# Altium footprint library Diodes.PcbLib: 49 footprints (part 1 of 4)
Each footprint in its own frame and in the unit in brackets; x right, y up, seen from the top. Pads: shape width x height; smd on the part's side, far side on the other; paste and mask are expansions set on the pad; w line width, h text height; cw(c..) or ccw(c..) is an arc to the next point about the centre after c.
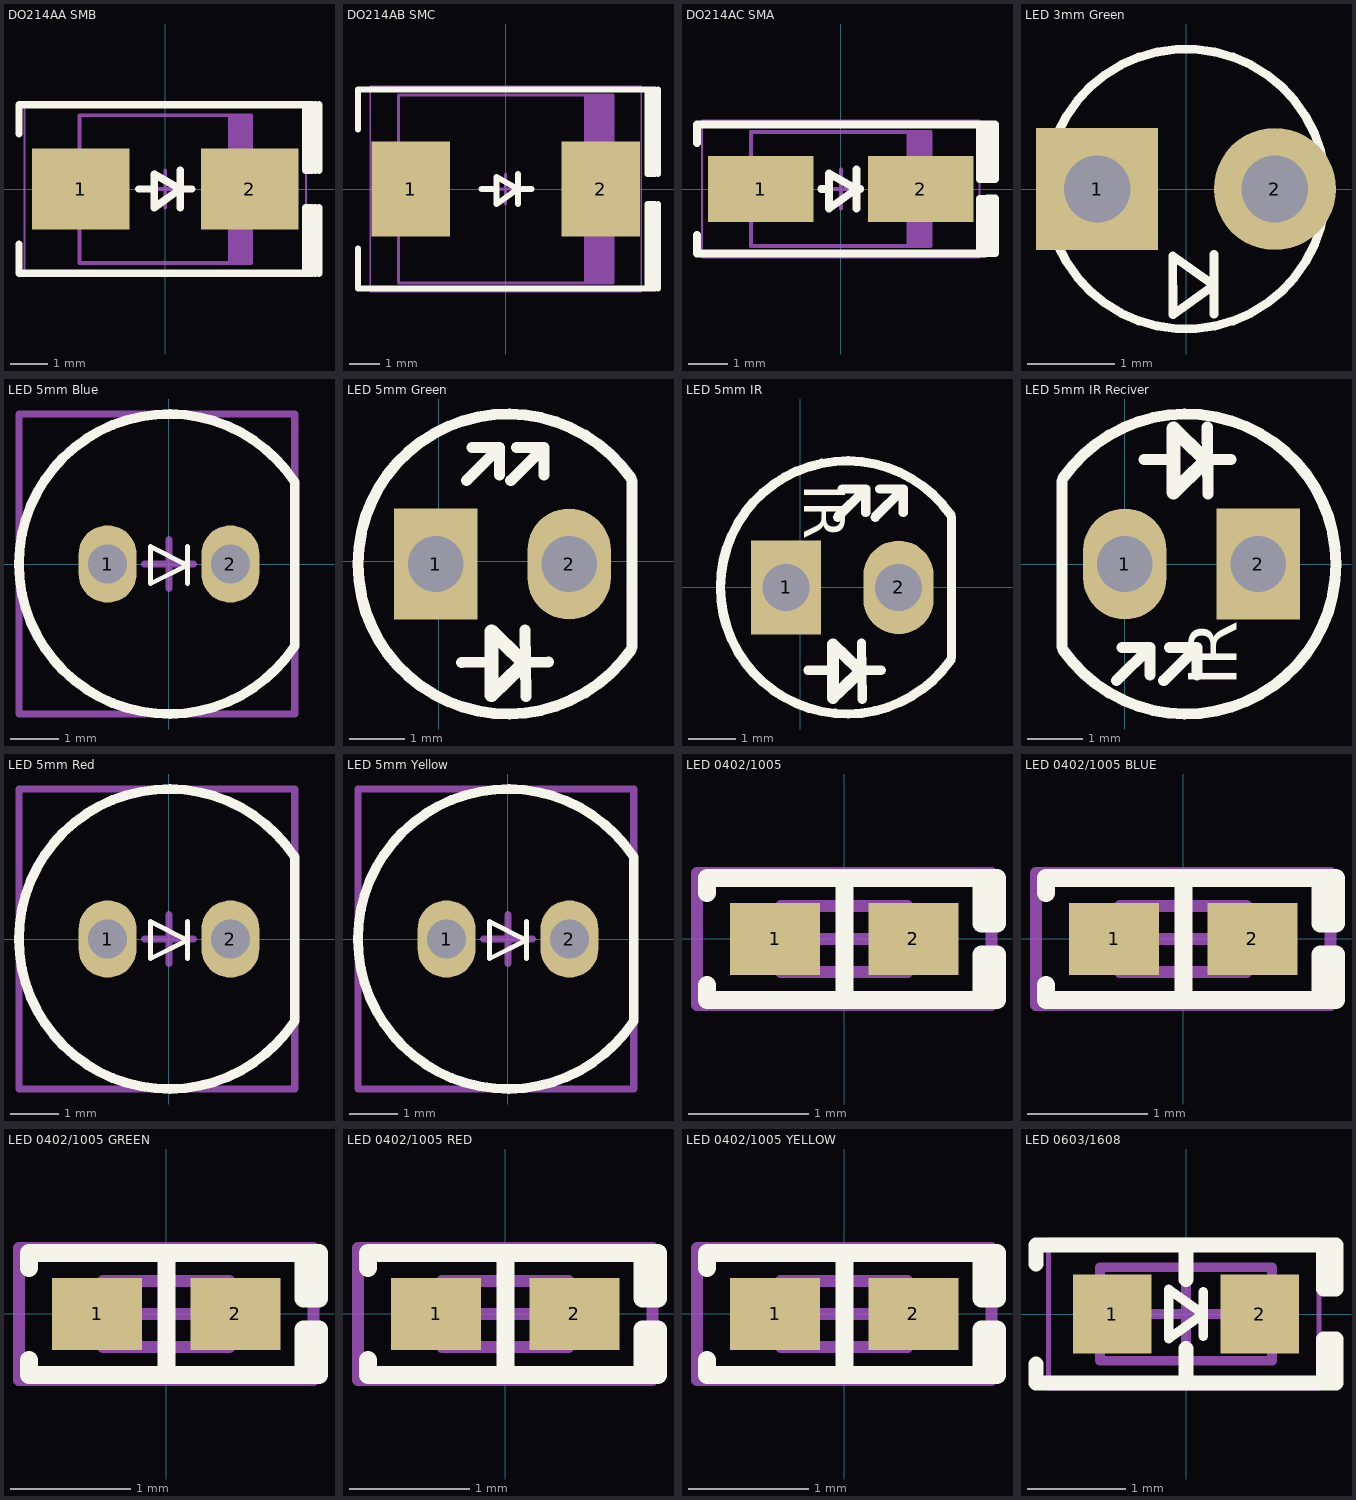
[diagram p0: the footprints below, top view; thin cyan lines are the x and y axes]

## DO214AA SMB [mm] "Molded Diode, 2-Leads, Body 4.31x3.62mm, IPC Medium Density"
height 2.44
pads (2):
  rect 2.6x2.15 smd: 1(-2.25,0) 2(2.25,0)
Top Overlay:
  lines w0.2: -3.9,-1.475 -3.9,-2.25 3.9,-2.25 3.9,-0.5 3.75,-0.5 3.75,-2.25 ; -3.9,1.475 -3.9,2.25 3.9,2.25 3.9,0.5 3.75,0.5 3.75,2.25 ; -0.7,0 -0.3,0 ; 0.4,-0.5 0.4,0.5 ; 0.7,0 0.4,0 ; 4,-2.25 4,-0.5 ; 4,0.5 4,2.25 ; 4.1,-2.25 4.1,-0.5 ; 4.1,0.5 4.1,2.25 ; 0.4,0 -0.3,0.4 -0.3,-0.5 0.4,0
Mechanical 13:
  rectangle: 1.67,-1.97 2.285,1.97
  lines w0.1: -2.285,-1.97 2.285,-1.97 2.285,1.97 -2.285,1.97 -2.285,-1.97
Mechanical 15:
  lines w0.05: -3.75,-2.25 3.75,-2.25 3.75,2.25 -3.75,2.25 -3.75,-2.25
  lines w0.1: -0.5,0 0.5,0 ; 0,-0.5 0,0.5
3D body "SMB.STEP": height 2.4, standoff 0, extent -2.6,-1.799 2.6,1.8

## DO214AB SMC [mm] "Molded Diode, 2-Leads, Body 6.85x5.90mm, IPC Medium Density"
height 2.62
pads (2):
  rect 2.6x3.15 smd: 1(-3.15,0) 2(3.15,0)
Top Overlay:
  lines w0.2: -4.9,-1.975 -4.9,-3.3 4.9,-3.3 ; -4.9,1.975 -4.9,3.3 4.9,3.3 ; -0.8,0 -0.3,0 ; 0.4,-0.5 0.4,0.5 ; 0.85,0 0.4,0 ; 4.7,-3.3 4.7,-0.5 4.9,-0.5 ; 4.7,3.3 4.7,0.5 4.9,0.5 ; 4.85,-3.3 4.85,-0.5 ; 4.85,0.5 4.85,3.3 ; 4.95,-3.3 4.95,-0.5 ; 4.95,0.5 4.95,3.3 ; 5.05,-3.3 5.05,-0.5 ; 5.05,0.5 5.05,3.3 ; 0.4,0 -0.3,0.4 -0.3,-0.5 0.4,0
Mechanical 13:
  rectangle: 2.599,-3.11 3.555,3.11
  lines w0.1: -3.555,-3.11 -3.555,3.11 3.555,3.11 3.555,-3.11 -3.555,-3.11
Mechanical 15:
  lines w0.05: -4.5,-3.4 -4.5,3.4 4.5,3.4 4.5,-3.4 -4.5,-3.4
  lines w0.1: -0.5,0 0.5,0 ; 0,-0.5 0,0.5
3D body "SMC.STEP": height 2.6, standoff 0, extent -3.97,-2.952 3.97,2.952

## DO214AC SMA [mm] "Molded Diode, 2-Leads, Body 4.30x2.60mm, IPC Medium Density"
height 2.4
pads (2):
  rect 2.7x1.7 smd: 1(-2.05,0) 2(2.05,0)
Top Overlay:
  rectangle: 3.5,0.2 4,1.7
  rectangle: 3.5,-1.7 4,-0.2
  lines w0.2: -3.683,-1.175 -3.683,-1.651 3.7,-1.651 3.7,-0.254 ; -3.683,1.175 -3.683,1.651 3.75,1.651 ; -0.5,0 -0.3,0 ; 0.4,-0.5 0.4,0.5 ; 0.5,0 0.4,0 ; 3.556,-1.651 3.556,-0.254 3.75,-0.254 ; 3.556,1.651 3.556,0.254 3.75,0.254 ; 3.7,0.254 3.7,1.651 ; 3.756,-1.646 3.95,-1.646 3.95,-0.249 ; 3.756,-0.246 3.95,-0.246 ; 3.756,0.254 3.95,0.254 3.95,1.651 ; 3.756,1.654 3.95,1.654 ; 3.806,-1.646 3.806,-0.249 ; 3.806,0.254 3.806,1.651 ; 0.4,0 -0.3,0.4 -0.3,-0.5 0.4,0
Mechanical 13:
  rectangle: 1.681,-1.46 2.3,1.46
  lines w0.1: -2.3,-1.46 -2.3,1.46 2.3,1.46 2.3,-1.46 -2.3,-1.46
Mechanical 15:
  lines w0.05: -3.556,-1.75 -3.556,1.75 3.556,1.75 3.556,-1.75 -3.556,-1.75
  lines w0.1: -0.5,0 0.5,0 ; 0,-0.5 0,0.5
3D body "SMA.STEP": height 2.4, standoff 0, extent -2.6,-1.375 2.6,1.375

## LED 3mm Green [mil]
height 157.48
pads (2):
  rect 55x55 hole 30: 1(-40,0)
  round 55 hole 30: 2(40,0)
Top Overlay:
  circle w3.94: c0,0 r62.99
  lines w3.94: -5.91,-56.3 -5.91,-30.09 12.6,-43.31 -5.8,-56.45 ; 12.6,-56.3 12.6,-29.53
3D body "LED.STEP": height 153.55, standoff -59.05, extent -68.9,-69 68.9,68.8

## LED 5mm Blue [mm] "LED 5MM THROUGH HOLE BLUE-Designer Abbas Basereh"
height 7.62
pads (2):
  oval 1.2x1.6 hole 0.8: 1(-1.27,0) 2(1.27,0)
Top Overlay:
  lines w0.1: 0.381,-0.403 0.381,0.359 ; -0.381,-0.403 -0.381,0.359 0.381,-0.022 -0.381,-0.403
  lines w0.2: 2.6,-1.7 2.6,1.7 ; 2.6,-1.688 cw(c0,0) 2.6,1.688
Mechanical 15:
  lines w0.15: -0.5,0 0.5,0 ; 0,-0.5 0,0.5 ; -3.1,-3.1 -3.1,3.1 2.6,3.1 2.6,-3.1 -3.1,-3.1
3D body "User Library-LEDd5B.STEP": height 12.31, standoff -2.49, extent -2.99,-2.98 2.43,3.04

## LED 5mm Green [mm]
pads (2):
  rect 1.5x2 hole 1: 1(-0.05,-0.05)
  oval 1.5x2 hole 1: 2(2.35,-0.05)
Top Overlay:
  lines w0.2: 0.418,-1.82 0.88,-1.814 ; 0.5,1.45 1.1,2.05 ; 0.6,2.05 1.1,2.05 ; 1.1,1.55 1.1,2.05 ; 1.3,1.45 1.9,2.05 ; 1.4,2.05 1.9,2.05 ; 1.518,-1.82 1.98,-1.814 ; 1.558,-1.236 1.572,-2.436 ; 1.9,1.55 1.9,2.05 ; 3.462,-1.599 cw(c1.25,-0.05) 3.462,1.499 ; 3.48,-1.541 3.48,1.441
  lines w0.254: 1.475,-1.898 0.95,-2.406 0.95,-1.263 1.475,-1.771
3D body "User Library-led5mm-red.STEP": height 9.6, standoff -1.8, extent -1.75,-2.998 3.701,2.898

## LED 5mm IR [mm]
pads (2):
  rect 1.5x2 hole 1: 1(-0.3,0)
  oval 1.5x2 hole 1: 2(2.1,0)
Top Overlay:
  lines w0.2: 0.168,-1.77 0.63,-1.764 ; 0.8,1.5 1.4,2.1 ; 0.9,2.1 1.4,2.1 ; 1.268,-1.77 1.73,-1.764 ; 1.308,-1.186 1.322,-2.386 ; 1.4,1.6 1.4,2.1 ; 1.6,1.5 2.2,2.1 ; 1.7,2.1 2.2,2.1 ; 2.2,1.6 2.2,2.1 ; 3.212,-1.549 cw(c1,0) 3.212,1.549 ; 3.23,-1.491 3.23,1.491
  lines w0.254: 1.225,-1.848 0.7,-2.356 0.7,-1.213 1.225,-1.721
  text "IR" at -0.2,2.2 h1.5
3D body "User Library-led5mm-red.STEP": height 9.6, standoff -1.8, extent -2,-2.948 3.451,2.948

## LED 5mm IR Reciver [mm]
pads (2):
  oval 1.5x2 hole 1: 1(0,0)
  rect 1.5x2 hole 1: 2(2.4,0)
Top Overlay:
  lines w0.2: -1.13,-1.491 -1.13,1.491 ; -1.112,-1.549 ccw(c1.1,0) -1.112,1.549 ; -0.15,-2.1 0.45,-1.5 ; -0.05,-1.5 0.45,-1.5 ; 0.343,1.878 0.805,1.883 ; 0.45,-2 0.45,-1.5 ; 0.7,-2.1 1.3,-1.5 ; 0.8,-1.5 1.3,-1.5 ; 1.3,-2 1.3,-1.5 ; 1.443,1.878 1.905,1.883 ; 1.483,2.462 1.497,1.262
  lines w0.254: 1.4,1.8 0.875,1.292 0.875,2.435 1.4,1.927
  text "IR" at 2.3,-2.2 h1.5
3D body "User Library-led5mm-red.STEP": height 9.6, standoff -1.8, extent -1.351,-2.948 4.1,2.948

## LED 5mm Red [mm] "LED 5MM THROUGH HOLE RED-Designer Abbas Basereh"
height 7.62
pads (2):
  oval 1.2x1.6 hole 0.8: 1(-1.27,0) 2(1.27,0)
Top Overlay:
  lines w0.1: 0.381,-0.403 0.381,0.359 ; -0.381,-0.403 0.381,-0.022 -0.381,0.359 -0.381,-0.403
  lines w0.2: 2.6,-1.7 2.6,1.7 ; 2.6,-1.688 cw(c0,0) 2.6,1.688
Mechanical 15:
  lines w0.15: -0.5,0 0.5,0 ; 0,-0.5 0,0.5 ; -3.1,-3.1 2.6,-3.1 2.6,3.1 -3.1,3.1 -3.1,-3.1
3D body "SW3dPS-LEDd5R.STEP": height 12.31, standoff -2.49, extent -2.97,-3 2.45,3.02

## LED 5mm Yellow [mm] "LED 5MM THROUGH HOLE YELLOW-Designer Abbas Basereh"
height 7.62
pads (2):
  oval 1.2x1.6 hole 0.8: 1(-1.27,0) 2(1.27,0)
Top Overlay:
  lines w0.1: 0.381,-0.403 0.381,0.359 ; -0.381,-0.403 -0.381,0.359 0.381,-0.022 -0.381,-0.403
  lines w0.2: 2.6,-1.7 2.6,1.7 ; 2.6,-1.688 cw(c0,0) 2.6,1.688
Mechanical 15:
  lines w0.15: -0.5,0 0.5,0 ; 0,-0.5 0,0.5 ; -3.1,-3.1 2.6,-3.1 2.6,3.1 -3.1,3.1 -3.1,-3.1
3D body "SW3dPS-LEDd5Y.STEP": height 12.31, standoff -2.49, extent -3,-3.01 2.42,3.01

## LED 0402/1005 [mm] "Chip Diode, 2-Leads, Body 1.00x0.50mm, IPC Medium Density"
height 0.25
pads (2):
  rect 0.75x0.6 smd: 1(-0.575,0) 2(0.575,0)
Top Overlay:
  lines w0.15: -1.143,-0.381 -1.143,-0.508 1.143,-0.508 ; -1.143,0.381 -1.143,0.508 1.143,0.508 ; 0,-0.508 0,0.508 ; 1.143,-0.508 1.27,-0.508 1.27,-0.127 1.143,-0.127 1.143,-0.508 ; 1.143,0.508 1.27,0.508 1.27,0.127 1.143,0.127 1.143,0.508
Mechanical 13:
  lines w0.1: -0.525,-0.275 -0.525,0.275 0.525,0.275 0.525,-0.275 -0.525,-0.275
Mechanical 15:
  lines w0.1: -0.275,0 0.275,0 ; 0,-0.275 0,0.275 ; -1.225,-0.55 -1.225,0.55 1.225,0.55 1.225,-0.55 -1.225,-0.55
3D body "LED 0402 Lens WHITE.STEP": height 0.21, standoff 0.08, extent -0.35,-0.25 0.35,0.25
3D body "LED 0402 Base WHITE.STEP": height 0.1, standoff 0, extent -0.5,-0.25 0.5,0.25

## LED 0402/1005 BLUE [mm] "Chip Diode, 2-Leads, Body 1.00x0.50mm, IPC Medium Density"
height 0.25
pads (2):
  rect 0.75x0.6 smd: 1(-0.575,0) 2(0.575,0)
Top Overlay:
  lines w0.15: -1.143,-0.381 -1.143,-0.508 1.143,-0.508 ; -1.143,0.381 -1.143,0.508 1.143,0.508 ; 0,-0.508 0,0.508 ; 1.143,-0.508 1.27,-0.508 1.27,-0.127 1.143,-0.127 1.143,-0.508 ; 1.143,0.508 1.27,0.508 1.27,0.127 1.143,0.127 1.143,0.508
Mechanical 13:
  lines w0.1: -0.525,-0.275 -0.525,0.275 0.525,0.275 0.525,-0.275 -0.525,-0.275
Mechanical 15:
  lines w0.1: -0.275,0 0.275,0 ; 0,-0.275 0,0.275 ; -1.225,-0.55 -1.225,0.55 1.225,0.55 1.225,-0.55 -1.225,-0.55
3D body "LED 0402 Lens BLUE.STEP": height 0.21, standoff 0.08, extent -0.35,-0.25 0.35,0.25
3D body "LED 0402 Base BLUE.STEP": height 0.1, standoff 0, extent -0.5,-0.25 0.5,0.25

## LED 0402/1005 GREEN [mm] "Chip Diode, 2-Leads, Body 1.00x0.50mm, IPC Medium Density"
height 0.25
pads (2):
  rect 0.75x0.6 smd: 1(-0.575,0) 2(0.575,0)
Top Overlay:
  lines w0.15: -1.143,-0.381 -1.143,-0.508 1.143,-0.508 ; -1.143,0.381 -1.143,0.508 1.143,0.508 ; 0,-0.508 0,0.508 ; 1.143,-0.508 1.143,-0.127 1.27,-0.127 1.27,-0.508 1.143,-0.508 ; 1.143,0.508 1.143,0.127 1.27,0.127 1.27,0.508 1.143,0.508
Mechanical 13:
  lines w0.1: -0.525,-0.275 0.525,-0.275 0.525,0.275 -0.525,0.275 -0.525,-0.275
Mechanical 15:
  lines w0.1: -0.275,0 0.275,0 ; 0,-0.275 0,0.275 ; -1.225,-0.55 1.225,-0.55 1.225,0.55 -1.225,0.55 -1.225,-0.55
3D body "LED 0402 Base GREEN.STEP": height 0.1, standoff 0, extent -0.5,-0.25 0.5,0.25
3D body "LED 0402 Lens GREEN.STEP": height 0.21, standoff 0.08, extent -0.35,-0.25 0.35,0.25

## LED 0402/1005 RED [mm] "Chip Diode, 2-Leads, Body 1.00x0.50mm, IPC Medium Density"
height 0.25
pads (2):
  rect 0.75x0.6 smd: 1(-0.575,0) 2(0.575,0)
Top Overlay:
  lines w0.15: -1.143,-0.381 -1.143,-0.508 1.143,-0.508 ; -1.143,0.381 -1.143,0.508 1.143,0.508 ; 0,-0.508 0,0.508 ; 1.143,-0.508 1.143,-0.127 1.27,-0.127 1.27,-0.508 1.143,-0.508 ; 1.143,0.508 1.143,0.127 1.27,0.127 1.27,0.508 1.143,0.508
Mechanical 13:
  lines w0.1: -0.525,-0.275 0.525,-0.275 0.525,0.275 -0.525,0.275 -0.525,-0.275
Mechanical 15:
  lines w0.1: -0.275,0 0.275,0 ; 0,-0.275 0,0.275 ; -1.225,-0.55 1.225,-0.55 1.225,0.55 -1.225,0.55 -1.225,-0.55
3D body "LED 0402 Base RED.STEP": height 0.1, standoff 0, extent -0.5,-0.25 0.5,0.25
3D body "LED 0402 Lens RED.STEP": height 0.21, standoff 0.08, extent -0.35,-0.25 0.35,0.25

## LED 0402/1005 YELLOW [mm] "Chip Diode, 2-Leads, Body 1.00x0.50mm, IPC Medium Density"
height 0.25
pads (2):
  rect 0.75x0.6 smd: 1(-0.575,0) 2(0.575,0)
Top Overlay:
  lines w0.15: -1.143,-0.381 -1.143,-0.508 1.143,-0.508 ; -1.143,0.381 -1.143,0.508 1.143,0.508 ; 0,-0.508 0,0.508 ; 1.143,-0.508 1.27,-0.508 1.27,-0.127 1.143,-0.127 1.143,-0.508 ; 1.143,0.508 1.27,0.508 1.27,0.127 1.143,0.127 1.143,0.508
Mechanical 13:
  lines w0.1: -0.525,-0.275 -0.525,0.275 0.525,0.275 0.525,-0.275 -0.525,-0.275
Mechanical 15:
  lines w0.1: -0.275,0 0.275,0 ; 0,-0.275 0,0.275 ; -1.225,-0.55 -1.225,0.55 1.225,0.55 1.225,-0.55 -1.225,-0.55
3D body "LED 0402 Lens YELLOW.STEP": height 0.21, standoff 0.08, extent -0.35,-0.25 0.35,0.25
3D body "LED 0402 Base YELLOW.STEP": height 0.1, standoff 0, extent -0.5,-0.25 0.5,0.25

## LED 0603/1608 [mm] "Chip Diode, 2-Leads, Body 1.60x0.80mm, IPC Medium Density"
height 0.45
pads (2):
  rect 0.8x0.8 smd: 1(-0.75,0) 2(0.75,0)
Top Overlay:
  lines w0.1: 0.175,-0.225 0.175,0 ; 0.175,0.225 0.175,0 ; 0.175,0 -0.175,-0.25 -0.175,0 -0.175,0.25 0.175,0
  lines w0.15: -1.524,-0.508 -1.524,-0.7 1.5,-0.7 ; -1.524,0.508 -1.524,0.7 1.5,0.7 ; 0,-0.7 0,-0.35 ; 0,0.35 0,0.7 ; 1.397,-0.7 1.397,-0.254 1.524,-0.254 1.524,-0.7 1.397,-0.7 ; 1.397,0.254 1.397,0.7 1.524,0.7 1.524,0.254 1.397,0.254
Mechanical 13:
  lines w0.1: -0.875,-0.475 0.875,-0.475 0.875,0.475 -0.875,0.475 -0.875,-0.475
Mechanical 15:
  lines w0.05: -1.397,-0.75 1.35,-0.75 1.35,0.75 -1.397,0.75 -1.397,-0.75
  lines w0.1: -0.475,0 0.475,0 ; 0,-0.475 0,0.475
3D body "LED 0603 Base WHITE.STEP": height 0.28, standoff 0, extent -0.8,-0.4 0.8,0.4
3D body "LED 0603 Lens WHITE.STEP": height 0.53, standoff 0.18, extent -0.55,-0.4 0.55,0.4